# Altium footprint library Lab6.PcbLib: 4 footprints
Each footprint in its own frame and in the unit in brackets; x right, y up, seen from the top. Pads: shape width x height; smd on the part's side, far side on the other; paste and mask are expansions set on the pad; w line width, h text height; cw(c..) or ccw(c..) is an arc to the next point about the centre after c.
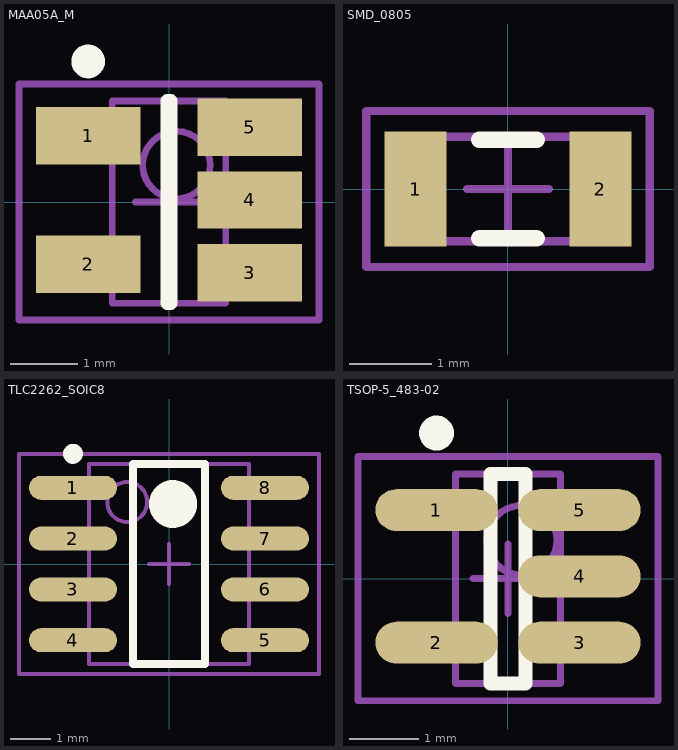
[diagram p0: the footprints below, top view; thin cyan lines are the x and y axes]

## MAA05A_M [mm] "TSOP, 5-Leads, Body 3.0x1.7mm (max), Pitch 0.95mm, IPC Medium Density"
height 1.194
pads (5):
  rect 1.55x0.85 smd: 1(-1.2,0.984) 2(-1.2,-0.921) 3(1.2,-1.048) 4(1.2,0.032) 5(1.2,1.111)
Top Overlay:
  circle w0.25: c-1.2,2.086 r0.125
  lines w0.2: -0.025,-1.5 0.025,-1.5 0.025,1.5 -0.025,1.5 -0.025,-1.5
Mechanical 13:
  circle w0.1: c0.11,0.55 r0.5
  lines w0.1: -0.84,-1.5 0.84,-1.5 0.84,1.5 -0.84,1.5 -0.84,-1.5
Mechanical 15:
  lines w0.1: -0.5,0 0.5,0 ; 0,-0.5 0,0.5 ; -2.225,-1.75 2.225,-1.75 2.225,1.75 -2.225,1.75 -2.225,-1.75
3D body: height 1.19, standoff 0.05, extent -0.84,-1.5 0.84,1.5
3D body: height 1, standoff 0, extent -1.143,-1.651 1.27,1.778

## SMD_0805 [mm] "Chip Capacitor, 2-Leads, Body 2.0x1.3mm, IPC Medium Density"
height 0.6
pads (2):
  rect 0.75x1.4 smd: 1(-1.125,0) 2(1.125,0)
Top Overlay:
  lines w0.2: -0.35,-0.6 0.35,-0.6 ; -0.35,0.6 0.35,0.6
Mechanical 13:
  lines w0.1: -1.015,-0.635 1.015,-0.635 1.015,0.635 -1.015,0.635 -1.015,-0.635
Mechanical 15:
  lines w0.1: -0.5,0 0.5,0 ; 0,-0.5 0,0.5 ; -1.725,-0.95 1.725,-0.95 1.725,0.95 -1.725,0.95 -1.725,-0.95
3D body: height 0.6, standoff 0, extent -1.015,-0.635 1.015,0.635
3D body: height 1, standoff 0, extent -1.651,-0.889 1.651,0.889

## TLC2262_SOIC8 [mm] "SOIC, 8-Leads, Body 5.0x4.0mm (max), Pitch 1.27mm, IPC Medium Density"
height 1.753
pads (8):
  oval 2.2x0.6 smd: 1(-2.4,1.905) 2(-2.4,0.635) 3(-2.4,-0.635) 4(-2.4,-1.905) 5(2.4,-1.905) 6(2.4,-0.635) 7(2.4,0.635) 8(2.4,1.905)
Top Overlay:
  circle w0.6: c0.1,1.5 r0.3
  circle w0.25: c-2.4,2.755 r0.125
  lines w0.2: -0.9,-2.5 0.9,-2.5 0.9,2.5 -0.9,2.5 -0.9,-2.5
Mechanical 13:
  circle w0.1: c-1.045,1.55 r0.5
  lines w0.1: -1.995,-2.5 1.995,-2.5 1.995,2.5 -1.995,2.5 -1.995,-2.5
Mechanical 15:
  lines w0.1: -0.5,0 0.5,0 ; 0,-0.5 0,0.5 ; -3.75,-2.75 3.75,-2.75 3.75,2.75 -3.75,2.75 -3.75,-2.75
3D body: height 1.75, standoff 0.1, extent -1.995,-2.5 1.995,2.5
3D body: height 1, standoff 0, extent -2.413,-2.667 2.286,2.54

## TSOP-5_483-02 [mm] "TSOP, 5-Leads, Body 3.0x1.5mm (max), Pitch 0.95mm, IPC Medium Density"
height 1.1
pads (5):
  oval 1.75x0.6 smd: 1(-1.025,0.983) 2(-1.025,-0.917) 3(1.025,-0.917) 4(1.025,0.033) 5(1.025,0.983)
Top Overlay:
  circle w0.25: c-1.025,2.087 r0.125
  lines w0.2: -0.25,-1.5 0.25,-1.5 0.25,1.5 -0.25,1.5 -0.25,-1.5
Mechanical 13:
  circle w0.1: c0.2,0.55 r0.5
  lines w0.1: -0.75,-1.5 0.75,-1.5 0.75,1.5 -0.75,1.5 -0.75,-1.5
Mechanical 15:
  lines w0.1: -0.5,0 0.5,0 ; 0,-0.5 0,0.5 ; -2.15,-1.75 2.15,-1.75 2.15,1.75 -2.15,1.75 -2.15,-1.75
3D body: height 1.1, standoff 0.1, extent -0.75,-1.5 0.75,1.5
3D body: height 1, standoff 0, extent -1.143,-1.778 1.651,1.778